# EAGLE library part AST027-06 (library con-ria-ast027-750)
RIA Springcon AST027-06 Grid 7,5mm Source: http://www.riaconnect.com/_assets/catalog/2008_TB_40.pdf
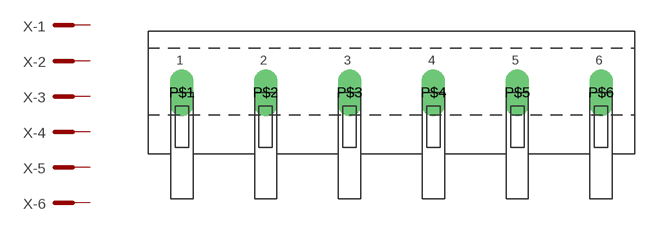
[diagram p0: symbol with the pads of P_AST027-06; footprint P_AST027-06]

Designator prefix X; gates -1=AST_PAD -2=AST_PAD -3=AST_PAD -4=AST_PAD -5=AST_PAD -6=AST_PAD

## AST027-06  [P_AST027-06]
P$1  -1:SK  pas
P$2  -2:SK  pas
P$3  -3:SK  pas
P$4  -4:SK  pas
P$5  -5:SK  pas
P$6  -6:SK  pas

## Footprint P_AST027-06 (pad centres in mm)
drill 1.4 long: P$1 -19.05,0; P$2 -11.55,0; P$3 -4.05,0; P$4 3.45,0; P$5 10.95,0; P$6 18.45,0